# Altium schematic symbol library LGR971.SchLib: 1 symbol
Pins are listed as number, name and electrical type; pins without a type are passive.

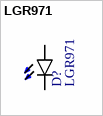
[diagram p0: symbol LGR971]

## LGR971
designator D?
Green 0805 CHIPLED LG R971; MF: Osram Opto; SnapEDA_Link: https://www.snapeda.com/parts/LG%20R971/Osram%20Opto/view-part/?ref=snap; Availability: Good; Price: 0.09 USD; MP: LG R971; Package: 0805 Osram Opto; Value: *
footprint 0805_R_LGR971(Primary)
pins: A, C